# EAGLE library part ATMEGAXXX4 (library lib_stankus)
Atmel ATMEGAXXX4 MCU
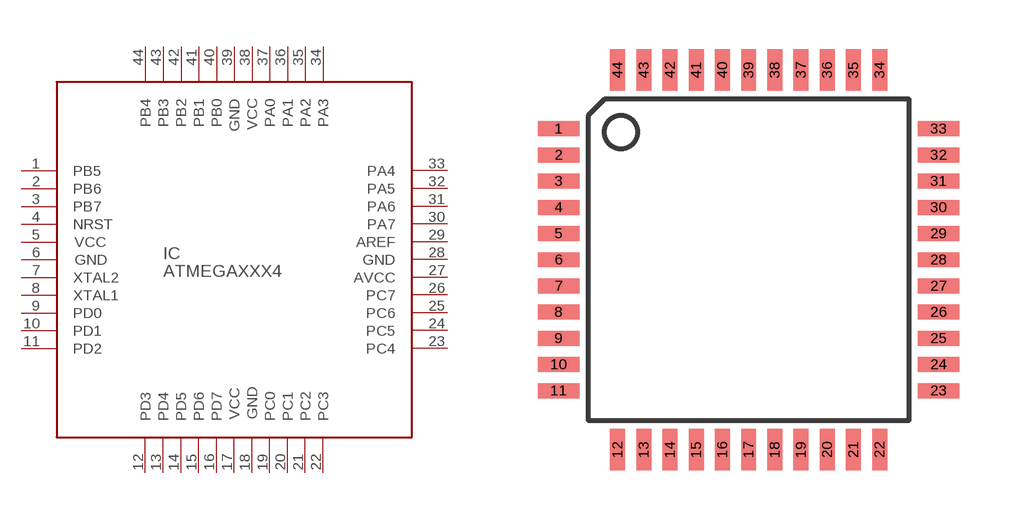
[diagram p75: symbol with the pads of QFP44_10_08; footprint QFP44_10_08]

Designator prefix IC

## ATMEGAXXX4-QFP44  [QFP44_10_08]
1  PB5  pas
2  PB6  pas
3  PB7  pas
4  NRST  pas
5  VCC  pas
6  GND  pas
7  XTAL2  pas
8  XTAL1  pas
9  PD0  pas
10  PD1  pas
11  PD2  pas
12  PD3  pas
13  PD4  pas
14  PD5  pas
15  PD6  pas
16  PD7  pas
17  VCC  pas
18  GND  pas
19  PC0  pas
20  PC1  pas
21  PC2  pas
22  PC3  pas
23  PC4  pas
24  PC5  pas
25  PC6  pas
26  PC7  pas
27  AVCC  pas
28  GND  pas
29  AREF  pas
30  PA7  pas
31  PA6  pas
32  PA5  pas
33  PA4  pas
34  PA3  pas
35  PA2  pas
36  PA1  pas
37  PA0  pas
38  VCC  pas
39  GND  pas
40  PB0  pas
41  PB1  pas
42  PB2  pas
43  PB3  pas
44  PB4  pas

## Footprint QFP44_10_08 (pad centres in mm)
QFP44, 10x10 MM, 0.8 MM
smd 1.27 x 0.457: 1 -5.8,4; 2 -5.8,3.2; 3 -5.8,2.4; 4 -5.8,1.6; 5 -5.8,0.8; 6 -5.8,0; 7 -5.8,-0.8; 8 -5.8,-1.6; 9 -5.8,-2.4; 10 -5.8,-3.2; 11 -5.8,-4; 23 5.8,-4; 24 5.8,-3.2; 25 5.8,-2.4; 26 5.8,-1.6; 27 5.8,-0.8; 28 5.8,0; 29 5.8,0.8; 30 5.8,1.6; 31 5.8,2.4; 32 5.8,3.2; 33 5.8,4
smd 0.457 x 1.27: 12 -4,-5.8; 13 -3.2,-5.8; 14 -2.4,-5.8; 15 -1.6,-5.8; 16 -0.8,-5.8; 17 0,-5.8; 18 0.8,-5.8; 19 1.6,-5.8; 20 2.4,-5.8; 21 3.2,-5.8; 22 4,-5.8; 34 4,5.8; 35 3.2,5.8; 36 2.4,5.8; 37 1.6,5.8; 38 0.8,5.8; 39 0,5.8; 40 -0.8,5.8; 41 -1.6,5.8; 42 -2.4,5.8; 43 -3.2,5.8; 44 -4,5.8